# EAGLE library part 400MHZ_SAW_FLTR (library NewSDR)
EPCOS FILTER SAW 400MHZ SMD
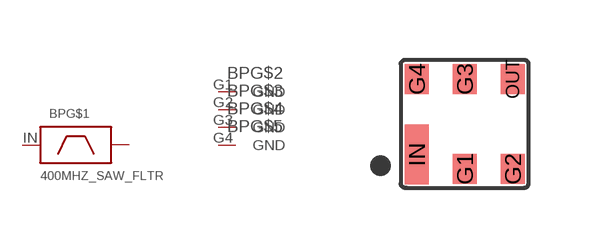
[diagram p141: symbol with the pads of DCC6E; footprint DCC6E]

Designator prefix BP; gates G$1=BP_FLTR G$2=PIN_GND G$3=PIN_GND G$4=PIN_GND G$5=PIN_GND

## 400MHZ_SAW_FLTR  [DCC6E]
G1  G$2:GND  pwr
G2  G$3:GND  pwr
G3  G$4:GND  pwr
G4  G$5:GND  pwr
IN  G$1:IN  pas
OUT  G$1:OUT  pas

## Footprint DCC6E (pad centres in mm)
smd 0.6 x 0.75: G1 -0.04,-1.125; G2 1.16,-1.125; G3 -0.04,1.125; G4 -1.24,1.125; OUT 1.16,1.125
smd 0.6 x 1.5: IN -1.24,-0.765